# EAGLE library part IC_SN74HC165 (library TD-MySensors)
8 pin input shift register
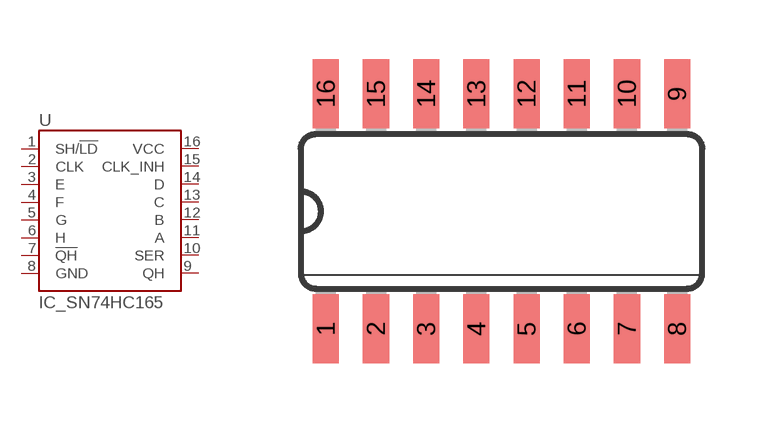
[diagram p8: symbol with the pads of SO16; footprint SO16]

Designator prefix -

## IC_SN74HC165  [SO16]
1  SH/!LD
2  CLK
3  E
4  F
5  G
6  H
7  !QH
8  GND  pwr
9  QH
10  SER
11  A
12  B
13  C
14  D
15  CLK_INH
16  VCC  pwr

## Footprint SO16 (pad centres in mm)
Small Outline package 150 mil
smd 0.66 x 1.75: 1 -4.445,-2.973; 2 -3.175,-2.973; 3 -1.905,-2.973; 4 -0.635,-2.973; 5 0.635,-2.973; 6 1.905,-2.973; 7 3.175,-2.973; 8 4.445,-2.973; 9 4.445,2.973; 10 3.175,2.973; 11 1.905,2.973; 12 0.635,2.973; 13 -0.635,2.973; 14 -1.905,2.973; 15 -3.175,2.973; 16 -4.445,2.973